# EAGLE library part PICOBLADE_9_ (library CONNECTORs)
1.25mm pitch 1A connector. 9 way.
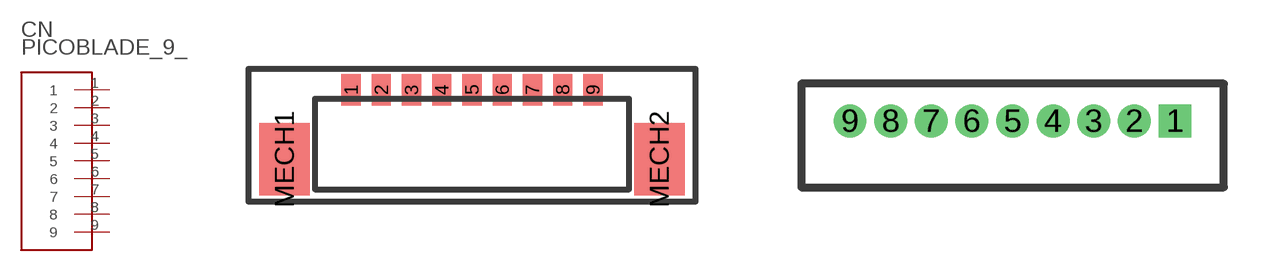
[diagram p14: symbol with the pads of MOLEX_0533980971; footprints MOLEX_0533980971, MOLEX_530470910]

Designator prefix CN

## PICOBLADE_9_SM_V (FARNELL: 1125355)  [MOLEX_0533980971]
1  1
2  2
3  3
4  4
5  5
6  6
7  7
8  8
9  9

## PICOBLADE_9_TH_V (FARNELL: 9732888)  [MOLEX_530470910]
Pads as for MOLEX_0533980971

## Footprint MOLEX_0533980971 (pad centres in mm)
smd 0.8 x 1.3: 1 -5,2.125; 2 -3.75,2.125; 3 -2.5,2.125; 4 -1.25,2.125; 5 0,2.125; 6 1.25,2.125; 7 2.5,2.125; 8 3.75,2.125; 9 5,2.125
smd 2.1 x 3: MECH1 -7.75,-0.75; MECH2 7.75,-0.75

## Footprint MOLEX_530470910 (pad centres in mm)
drill 0.5 square: 1 5,0
drill 0.5: 2 3.75,0; 3 2.5,0; 4 1.25,0; 5 0,0; 6 -1.25,0; 7 -2.5,0; 8 -3.75,0; 9 -5,0